# Altium footprint library OpAmp.PcbLib: 1 footprints
Each footprint in its own frame and in the unit in brackets; x right, y up, seen from the top. Pads: shape width x height; smd on the part's side, far side on the other; paste and mask are expansions set on the pad; w line width, h text height; cw(c..) or ccw(c..) is an arc to the next point about the centre after c.
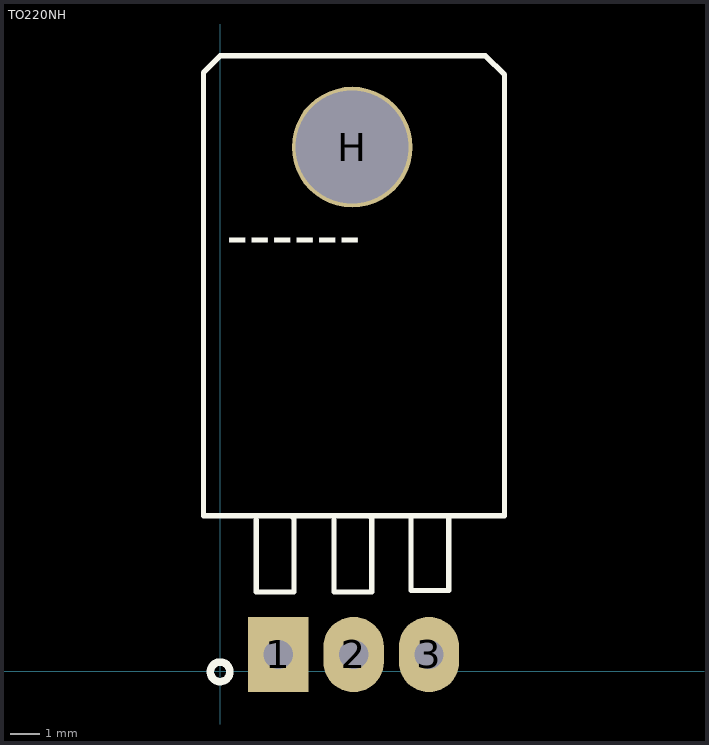
[diagram p0: the footprint, top view; thin cyan lines are the x and y axes]

## TO220NH [mil] "TO-220 - 1-2-3"
height 200
pads (4):
  rect 80x100 hole 39: 1(77,22)
  oval 80x100 hole 39: 2(177,22) 3(277,22)
  round 160 hole 150: H(175,695)
Top Overlay:
  circle w10: c-0.03,-1 r12.97
  lines w7: -22,571 -22,794 0,816 352,816 377,791 377,752 ; -22,574 -22,206 377,206 377,575 ; 48,200 48,105 98,105 98,202 97,203 ; 151,200 151,105 201,105 201,202 200,203 ; 253,202 253,107 303,107 303,204 302,205 ; 377,574 377,755
  text "------" at 8,549 h60
3D body "SW3DPS-TO-220-DEFAULT.STEP": height 165.35, standoff -118.11, extent -23,18.34 377,785.66